# EAGLE library part ADS802 (library ICs)
12bit, 1MSPS ADC.
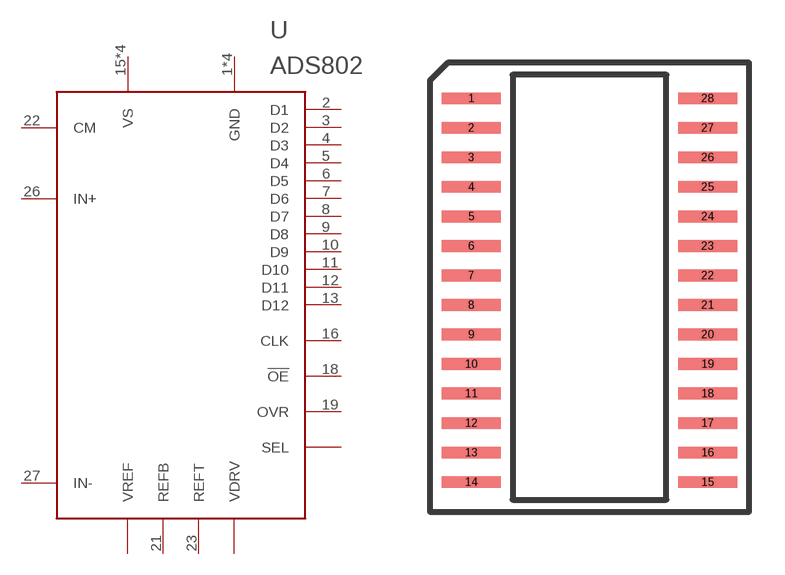
[diagram p18: symbol with the pads of SOIC28; footprint SOIC28]

Designator prefix U

## ADS802SOIC  [SOIC28]
1  GND
2  D1
3  D2
4  D3
5  D4
6  D5
7  D6
8  D7
9  D8
10  D9
11  D10
12  D11
13  D12
14  GND
15  VS
16  CLK
17  VS
18  !OE
19  OVR
20  VS
21  REFB
22  CM
23  REFT
24  VS
25  GND
26  IN+
27  IN-
28  GND

## Footprint SOIC28 (pad centres in mm)
smd 2.5 x 0.5: 1 -5,8; 2 -5,6.75; 3 -5,5.5; 4 -5,4.25; 5 -5,3; 6 -5,1.75; 7 -5,0.5; 8 -5,-0.75; 9 -5,-2; 10 -5,-3.25; 11 -5,-4.5; 12 -5,-5.75; 13 -5,-7; 14 -5,-8.25; 15 5,-8.25; 16 5,-7; 17 5,-5.75; 18 5,-4.5; 19 5,-3.25; 20 5,-2; 21 5,-0.75; 22 5,0.5; 23 5,1.75; 24 5,3; 25 5,4.25; 26 5,5.5; 27 5,6.75; 28 5,8